# EAGLE library part 5559ИН19У (library transceivers)
АЕЯР.431230.740 ТУ 5559ИН19У - двухканальный LVDS-приемопередатчик производства АО ПКК "Миландр". Технические условия: АЕЯР.431230.740 ТУ
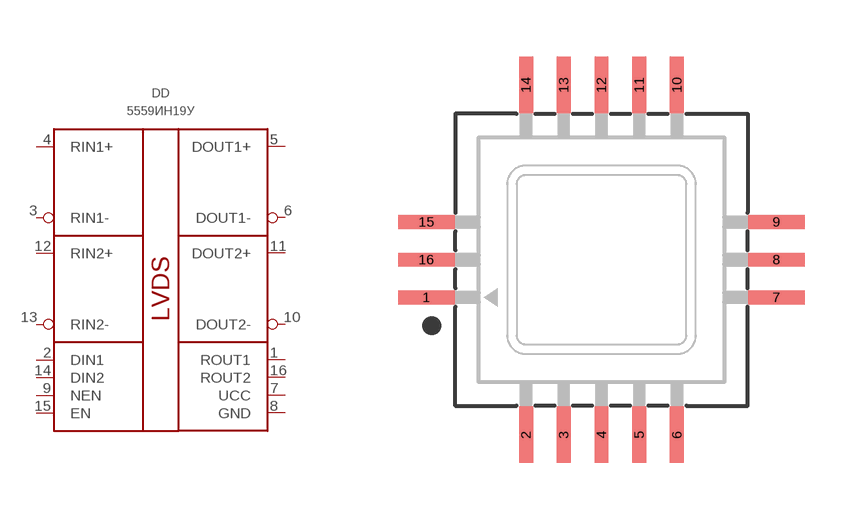
[diagram p3: symbol with the pads of H02.16-1B; footprint H02.16-1B]

Designator prefix DD

## 5559ИН19У  [H02.16-1B]
1  ROUT1
2  DIN1
3  RIN1-
4  RIN1+
5  DOUT1+
6  DOUT1-
7  UCC  pwr
8  GND  pwr
9  NEN
10  DOUT2-
11  DOUT2+
12  RIN2+
13  RIN2-
14  DIN2
15  EN
16  ROUT2

## Footprint H02.16-1B (pad centres in mm)
smd 1.5 x 0.37: 1 -4.64,-1; 7 4.64,-1; 8 4.64,0; 9 4.64,1; 15 -4.64,1; 16 -4.64,0
smd 0.37 x 1.5: 2 -2,-4.64; 3 -1,-4.64; 4 0,-4.64; 5 1,-4.64; 6 2,-4.64; 10 2,4.64; 11 1,4.64; 12 0,4.64; 13 -1,4.64; 14 -2,4.64